# EAGLE library part MPU-6050 (library Sensor)
IMU ACCEL/GYRO 3-AXIS I2C 24QFN Manufacturer's datasheet <https://store.invensense.com/datasheets/invensense/MPU-6050_DataSheet_V3%204.pdf>
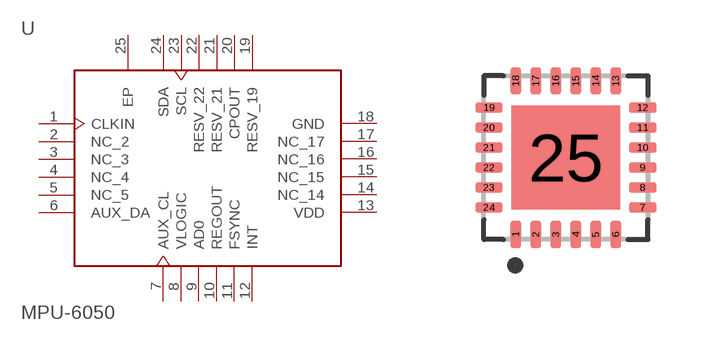
[diagram p4: symbol with the pads of 24-VFQFN; footprint 24-VFQFN]

Designator prefix U

## MPU-6050 (CREATED_BY: PCBLayout.com; DIGIKEY_PART_NUMBER: 1428-1007-1-ND; MANUFACTURER: TDK InvenSense; MPN: MPU-6050; PACKAGE: 24-VFQFN)  [24-VFQFN]
1  CLKIN  in
2  NC_2  pas
3  NC_3  pas
4  NC_4  pas
5  NC_5  pas
6  AUX_DA
7  AUX_CL
8  VLOGIC  pwr
9  AD0
10  REGOUT  pas
11  FSYNC  in
12  INT  out
13  VDD  pwr
14  NC_14  pas
15  NC_15  pas
16  NC_16  pas
17  NC_17  pas
18  GND  pwr
19  RESV_19  pas
20  CPOUT  out
21  RESV_21  pas
22  RESV_22  pas
23  SCL
24  SDA
25  EP  pwr

## Footprint 24-VFQFN (pad centres in mm)
Quad Flat No-Lead (QFN with Tab), 0.50 mm pitch; square, 6 pin X 6 pin, 4.00 mm L X 4.00 mm W X 0.95 mm H body PCB Libraries Packages
smd 0.26 x 0.69: 1 -1.25,-1.92; 2 -0.75,-1.92; 3 -0.25,-1.92; 4 0.25,-1.92; 5 0.75,-1.92; 6 1.25,-1.92; 13 1.25,1.92; 14 0.75,1.92; 15 0.25,1.92; 16 -0.25,1.92; 17 -0.75,1.92; 18 -1.25,1.92
smd 0.69 x 0.26: 7 1.92,-1.25; 8 1.92,-0.75; 9 1.92,-0.25; 10 1.92,0.25; 11 1.92,0.75; 12 1.92,1.25; 19 -1.92,1.25; 20 -1.92,0.75; 21 -1.92,0.25; 22 -1.92,-0.25; 23 -1.92,-0.75; 24 -1.92,-1.25
smd 2.7 x 2.6: 25 0,0